# EAGLE library part HEADER-2X10P (library Deegou_Connector)
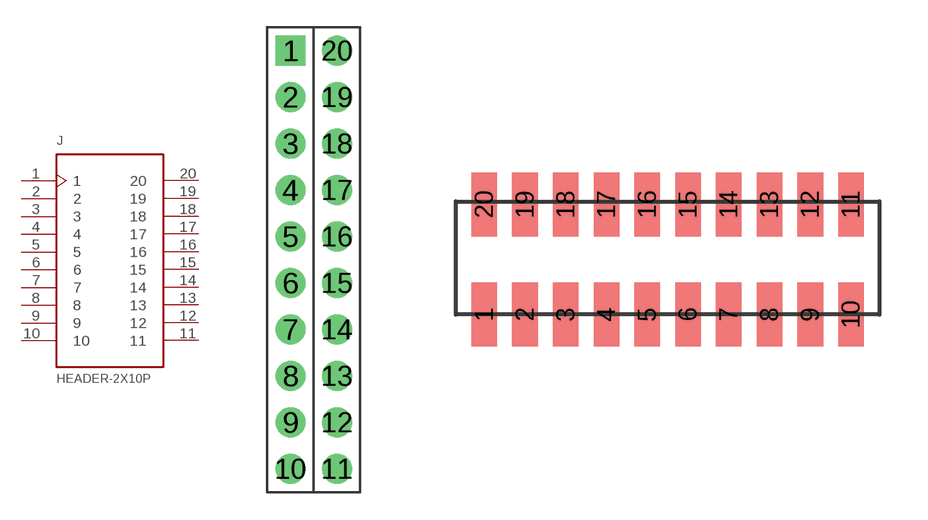
[diagram p17: symbol with the pads of 2X10P-2.54; footprints 2X10P-2.54, 2X10P-1.27-SMD]

Designator prefix J

## HEADER-2X10P-2.54  [2X10P-2.54]
1  1
2  2
3  3
4  4
5  5
6  6
7  7
8  8
9  9
10  10
11  11
12  12
13  13
14  14
15  15
16  16
17  17
18  18
19  19
20  20

## HEADER-2X10P-1.27  [2X10P-1.27-SMD]
Pads as for 2X10P-2.54

## HEADER-2X10P  [2*10-1.27-SMD-ES]
Pads as for 2X10P-2.54

## Footprint 2X10P-2.54 (pad centres in mm)
drill 0.889 pad 1.651 square: 1 -1.27,11.43
drill 0.889 pad 1.651: 2 -1.27,8.89; 3 -1.27,6.35; 4 -1.27,3.81; 5 -1.27,1.27; 6 -1.27,-1.27; 7 -1.27,-3.81; 8 -1.27,-6.35; 9 -1.27,-8.89; 10 -1.27,-11.43; 11 1.27,-11.43; 12 1.27,-8.89; 13 1.27,-6.35; 14 1.27,-3.81; 15 1.27,-1.27; 16 1.27,1.27; 17 1.27,3.81; 18 1.27,6.35; 19 1.27,8.89; 20 1.27,11.43

## Footprint 2X10P-1.27-SMD (pad centres in mm)
smd 0.8 x 2: 1 -5.715,-1.715; 2 -4.445,-1.715; 3 -3.175,-1.715; 4 -1.905,-1.715; 5 -0.635,-1.715; 6 0.635,-1.715; 7 1.905,-1.715; 8 3.175,-1.715; 9 4.445,-1.715; 10 5.715,-1.715; 11 5.715,1.715; 12 4.445,1.715; 13 3.175,1.715; 14 1.905,1.715; 15 0.635,1.715; 16 -0.635,1.715; 17 -1.905,1.715; 18 -3.175,1.715; 19 -4.445,1.715; 20 -5.715,1.715

## Footprint 2*10-1.27-SMD-ES (pad centres in mm)
smd 0.8 x 1.6: 1 -5.715,-1.4; 2 -4.445,-1.4; 3 -3.175,-1.4; 4 -1.905,-1.4; 5 -0.635,-1.4; 6 0.635,-1.4; 7 1.905,-1.4; 8 3.175,-1.4; 9 4.445,-1.4; 10 5.715,-1.4; 11 5.715,1.4; 12 4.445,1.4; 13 3.175,1.4; 14 1.905,1.4; 15 0.635,1.4; 16 -0.635,1.4; 17 -1.905,1.4; 18 -3.175,1.4; 19 -4.445,1.4; 20 -5.615,1.4